# Altium schematic symbol library WCAP-FTX2.SchLib: 108 symbols (part 1 of 2)
Pins are listed as number, name and electrical type; pins without a type are passive.

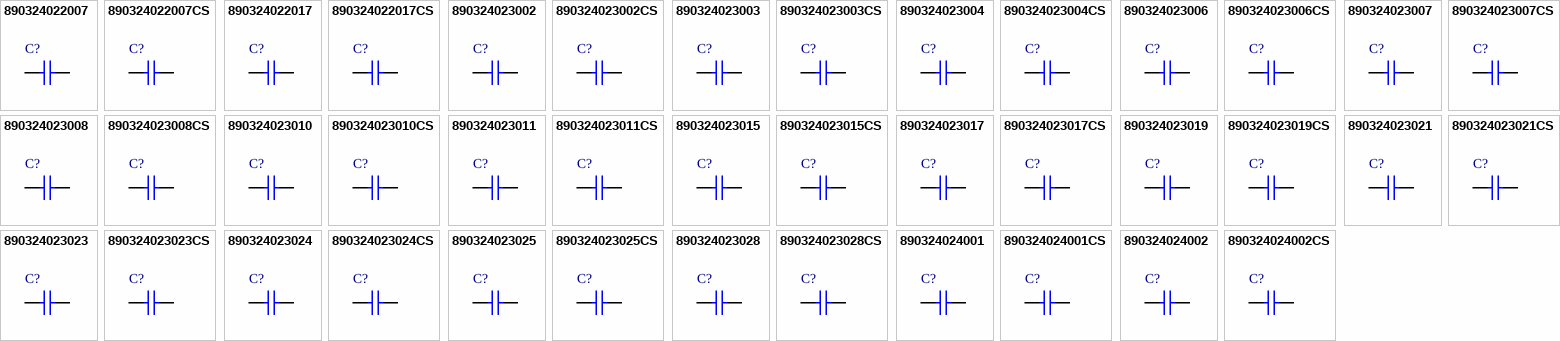
[diagram p0: symbols 890324022007 to 890324024002CS]

## 890324022007
designator C?, comment 15nF  (value not drawn)
WCAP-FTX2 Film Capacitor, THT, 11mm x 6mm x 10mm, 15nF, 275V; Manufacturer Part Number: 890324022007; Manufacturer: Wurth Elektronik; Dissipation Factor @1kHz: 0.1%; Insulation Resistance: 30Gohm; Rate of Voltage Rise: 500V/us; Rated Voltage: 275V (AC); Safety Class: X2; Category: Film Capacitors; Match Code: WCAP-FTX2; ComponentLink1Description: Website Link; ComponentLink1URL: https://www.we-online.com; ComponentLink2Description: Datasheet Link; ComponentLink2URL: https://www.we-online.com/components/products/datasheet/890324022007; Mount: Through Hole; Operating Temperature Min: -40degC; Operating Temperature Max: 105degC; Packaging: Carton; Length: 11mm; Width: 6mm; Height: 10mm; Capacitance: 15nF; Lead Pitch: 7.5mm
footprint WCAP-FTX2_L11W6H10
simulation model 890324022007_15nF
pins: 1, 2

## 890324022007CS
designator C?, comment 15nF  (value not drawn)
WCAP-FTX2 Film Capacitor, THT, 11mm x 6mm x 10mm, 15nF, 275V; Manufacturer Part Number: 890324022007CS; Manufacturer: Wurth Elektronik; Dissipation Factor @1kHz: 0.1%; Insulation Resistance: 30Gohm; Rate of Voltage Rise: 500V/us; Rated Voltage: 275V (AC); Safety Class: X2; Category: Film Capacitors; Match Code: WCAP-FTX2; ComponentLink1Description: Website Link; ComponentLink1URL: https://www.we-online.com; ComponentLink2Description: Datasheet Link; ComponentLink2URL: https://www.we-online.com/components/products/datasheet/890324022007CS; Mount: Through Hole; Operating Temperature Min: -40degC; Operating Temperature Max: 105degC; Packaging: Carton; Length: 11mm; Width: 6mm; Height: 10mm; Capacitance: 15nF; Lead Pitch: 7.5mm
footprint WCAP-FTX2_L11W6H10
simulation model 890324022007CS_15nF
pins: 1, 2

## 890324022017
designator C?, comment 68nF  (value not drawn)
WCAP-FTX2 Film Capacitor, THT, 10mm x 6mm x 12mm, 68nF, 275V; Manufacturer Part Number: 890324022017; Manufacturer: Wurth Elektronik; Dissipation Factor @1kHz: 0.1%; Insulation Resistance: 30Gohm; Rate of Voltage Rise: 400V/us; Rated Voltage: 275V (AC); Safety Class: X2; Category: Film Capacitors; Match Code: WCAP-FTX2; ComponentLink1Description: Website Link; ComponentLink1URL: https://www.we-online.com; ComponentLink2Description: Datasheet Link; ComponentLink2URL: https://www.we-online.com/components/products/datasheet/890324022017; Mount: Through Hole; Operating Temperature Min: -40degC; Operating Temperature Max: 105degC; Packaging: Carton; Length: 10mm; Width: 6mm; Height: 12mm; Capacitance: 68nF; Lead Pitch: 7.5mm
footprint WCAP-FTX2_L10W6H12
simulation model 890324022017_68nF
pins: 1, 2

## 890324022017CS
designator C?, comment 68nF  (value not drawn)
WCAP-FTX2 Film Capacitor, THT, 10mm x 6mm x 12mm, 68nF, 275V; Manufacturer Part Number: 890324022017CS; Manufacturer: Wurth Elektronik; Dissipation Factor @1kHz: 0.1%; Insulation Resistance: 30Gohm; Rate of Voltage Rise: 400V/us; Rated Voltage: 275V (AC); Safety Class: X2; Category: Film Capacitors; Match Code: WCAP-FTX2; ComponentLink1Description: Website Link; ComponentLink1URL: https://www.we-online.com; ComponentLink2Description: Datasheet Link; ComponentLink2URL: https://www.we-online.com/components/products/datasheet/890324022017CS; Mount: Through Hole; Operating Temperature Min: -40degC; Operating Temperature Max: 105degC; Packaging: Carton; Length: 10mm; Width: 6mm; Height: 12mm; Capacitance: 68nF; Lead Pitch: 7.5mm
footprint WCAP-FTX2_L10W6H12
simulation model 890324022017CS_68nF
pins: 1, 2

## 890324023002
designator C?, comment 5.6nF  (value not drawn)
WCAP-FTX2 Film Capacitor, THT, 13mm x 5mm x 10mm, 5.6nF, 275V; Manufacturer Part Number: 890324023002; Manufacturer: Wurth Elektronik; Dissipation Factor @1kHz: 0.1%; Insulation Resistance: 30Gohm; Rate of Voltage Rise: 600V/us; Rated Voltage: 275V (AC); Safety Class: X2; Category: Film Capacitors; Match Code: WCAP-FTX2; ComponentLink1Description: Website Link; ComponentLink1URL: https://www.we-online.com; ComponentLink2Description: Datasheet Link; ComponentLink2URL: https://www.we-online.com/components/products/datasheet/890324023002; Mount: Through Hole; Operating Temperature Min: -40degC; Operating Temperature Max: 105degC; Packaging: Carton; Length: 13mm; Width: 5mm; Height: 10mm; Capacitance: 5.6nF; Lead Pitch: 10mm
footprint WCAP-FTX2_L13W5H10
simulation model 890324023002_5.6nF
pins: 1, 2

## 890324023002CS
designator C?, comment 5.6nF  (value not drawn)
WCAP-FTX2 Film Capacitor, THT, 13mm x 5mm x 10mm, 5.6nF, 275V; Manufacturer Part Number: 890324023002CS; Manufacturer: Wurth Elektronik; Dissipation Factor @1kHz: 0.1%; Insulation Resistance: 30Gohm; Rate of Voltage Rise: 600V/us; Rated Voltage: 275V (AC); Safety Class: X2; Category: Film Capacitors; Match Code: WCAP-FTX2; ComponentLink1Description: Website Link; ComponentLink1URL: https://www.we-online.com; ComponentLink2Description: Datasheet Link; ComponentLink2URL: https://www.we-online.com/components/products/datasheet/890324023002CS; Mount: Through Hole; Operating Temperature Min: -40degC; Operating Temperature Max: 105degC; Packaging: Carton; Length: 13mm; Width: 5mm; Height: 10mm; Capacitance: 5.6nF; Lead Pitch: 10mm
footprint WCAP-FTX2_L13W5H10
simulation model 890324023002CS_5.6nF
pins: 1, 2

## 890324023003
designator C?, comment 6.8nF  (value not drawn)
WCAP-FTX2 Film Capacitor, THT, 13mm x 5mm x 10mm, 6.8nF, 275V; Manufacturer Part Number: 890324023003; Manufacturer: Wurth Elektronik; Dissipation Factor @1kHz: 0.1%; Insulation Resistance: 30Gohm; Rate of Voltage Rise: 400V/us; Rated Voltage: 275V (AC); Safety Class: X2; Category: Film Capacitors; Match Code: WCAP-FTX2; ComponentLink1Description: Website Link; ComponentLink1URL: https://www.we-online.com; ComponentLink2Description: Datasheet Link; ComponentLink2URL: https://www.we-online.com/components/products/datasheet/890324023003; Mount: Through Hole; Operating Temperature Min: -40degC; Operating Temperature Max: 105degC; Packaging: Carton; Length: 13mm; Width: 5mm; Height: 10mm; Capacitance: 6.8nF; Lead Pitch: 10mm
footprint WCAP-FTX2_L13W5H10
simulation model 890324023003_6.8nF
pins: 1, 2

## 890324023003CS
designator C?, comment 6.8nF  (value not drawn)
WCAP-FTX2 Film Capacitor, THT, 13mm x 5mm x 10mm, 6.8nF, 275V; Manufacturer Part Number: 890324023003CS; Manufacturer: Wurth Elektronik; Dissipation Factor @1kHz: 0.1%; Insulation Resistance: 30Gohm; Rate of Voltage Rise: 400V/us; Rated Voltage: 275V (AC); Safety Class: X2; Category: Film Capacitors; Match Code: WCAP-FTX2; ComponentLink1Description: Website Link; ComponentLink1URL: https://www.we-online.com; ComponentLink2Description: Datasheet Link; ComponentLink2URL: https://www.we-online.com/components/products/datasheet/890324023003CS; Mount: Through Hole; Operating Temperature Min: -40degC; Operating Temperature Max: 105degC; Packaging: Carton; Length: 13mm; Width: 5mm; Height: 10mm; Capacitance: 6.8nF; Lead Pitch: 10mm
footprint WCAP-FTX2_L13W5H10
simulation model 890324023003CS_6.8nF
pins: 1, 2

## 890324023004
designator C?, comment 8.2nF  (value not drawn)
WCAP-FTX2 Film Capacitor, THT, 13mm x 5mm x 10mm, 8.2nF, 275V; Manufacturer Part Number: 890324023004; Manufacturer: Wurth Elektronik; Dissipation Factor @1kHz: 0.1%; Insulation Resistance: 30Gohm; Rate of Voltage Rise: 400V/us; Rated Voltage: 275V (AC); Safety Class: X2; Category: Film Capacitors; Match Code: WCAP-FTX2; ComponentLink1Description: Website Link; ComponentLink1URL: https://www.we-online.com; ComponentLink2Description: Datasheet Link; ComponentLink2URL: https://www.we-online.com/components/products/datasheet/890324023004; Mount: Through Hole; Operating Temperature Min: -40degC; Operating Temperature Max: 105degC; Packaging: Carton; Length: 13mm; Width: 5mm; Height: 10mm; Capacitance: 8.2nF; Lead Pitch: 10mm
footprint WCAP-FTX2_L13W5H10
simulation model 890324023004_8.2nF
pins: 1, 2

## 890324023004CS
designator C?, comment 8.2nF  (value not drawn)
WCAP-FTX2 Film Capacitor, THT, 13mm x 5mm x 10mm, 8.2nF, 275V; Manufacturer Part Number: 890324023004CS; Manufacturer: Wurth Elektronik; Dissipation Factor @1kHz: 0.1%; Insulation Resistance: 30Gohm; Rate of Voltage Rise: 400V/us; Rated Voltage: 275V (AC); Safety Class: X2; Category: Film Capacitors; Match Code: WCAP-FTX2; ComponentLink1Description: Website Link; ComponentLink1URL: https://www.we-online.com; ComponentLink2Description: Datasheet Link; ComponentLink2URL: https://www.we-online.com/components/products/datasheet/890324023004CS; Mount: Through Hole; Operating Temperature Min: -40degC; Operating Temperature Max: 105degC; Packaging: Carton; Length: 13mm; Width: 5mm; Height: 10mm; Capacitance: 8.2nF; Lead Pitch: 10mm
footprint WCAP-FTX2_L13W5H10
simulation model 890324023004CS_8.2nF
pins: 1, 2

## 890324023006
designator C?, comment 10nF  (value not drawn)
WCAP-FTX2 Film Capacitor, THT, 13mm x 5mm x 11mm, 10nF, 275V; Manufacturer Part Number: 890324023006; Manufacturer: Wurth Elektronik; Dissipation Factor @1kHz: 0.1%; Insulation Resistance: 30Gohm; Rate of Voltage Rise: 500V/us; Rated Voltage: 275V (AC); Safety Class: X2; Category: Film Capacitors; Match Code: WCAP-FTX2; ComponentLink1Description: Website Link; ComponentLink1URL: https://www.we-online.com; ComponentLink2Description: Datasheet Link; ComponentLink2URL: https://www.we-online.com/components/products/datasheet/890324023006; Mount: Through Hole; Operating Temperature Min: -40degC; Operating Temperature Max: 105degC; Packaging: Carton; Length: 13mm; Width: 5mm; Height: 11mm; Capacitance: 10nF; Lead Pitch: 10mm
footprint WCAP-FTX2_L13W5H11
simulation model 890324023006_10nF
pins: 1, 2

## 890324023006CS
designator C?, comment 10nF  (value not drawn)
WCAP-FTX2 Film Capacitor, THT, 13mm x 5mm x 11mm, 10nF, 275V; Manufacturer Part Number: 890324023006CS; Manufacturer: Wurth Elektronik; Dissipation Factor @1kHz: 0.1%; Insulation Resistance: 30Gohm; Rate of Voltage Rise: 500V/us; Rated Voltage: 275V (AC); Safety Class: X2; Category: Film Capacitors; Match Code: WCAP-FTX2; ComponentLink1Description: Website Link; ComponentLink1URL: https://www.we-online.com; ComponentLink2Description: Datasheet Link; ComponentLink2URL: https://www.we-online.com/components/products/datasheet/890324023006CS; Mount: Through Hole; Operating Temperature Min: -40degC; Operating Temperature Max: 105degC; Packaging: Carton; Length: 13mm; Width: 5mm; Height: 11mm; Capacitance: 10nF; Lead Pitch: 10mm
footprint WCAP-FTX2_L13W5H11
simulation model 890324023006CS_10nF
pins: 1, 2

## 890324023007
designator C?, comment 12nF  (value not drawn)
WCAP-FTX2 Film Capacitor, THT, 13mm x 5mm x 11mm, 12nF, 275V; Manufacturer Part Number: 890324023007; Manufacturer: Wurth Elektronik; Dissipation Factor @1kHz: 0.1%; Insulation Resistance: 30Gohm; Rate of Voltage Rise: 300V/us; Rated Voltage: 275V (AC); Safety Class: X2; Category: Film Capacitors; Match Code: WCAP-FTX2; ComponentLink1Description: Website Link; ComponentLink1URL: https://www.we-online.com; ComponentLink2Description: Datasheet Link; ComponentLink2URL: https://www.we-online.com/components/products/datasheet/890324023007; Mount: Through Hole; Operating Temperature Min: -40degC; Operating Temperature Max: 105degC; Packaging: Carton; Length: 13mm; Width: 5mm; Height: 11mm; Capacitance: 12nF; Lead Pitch: 10mm
footprint WCAP-FTX2_L13W5H11
simulation model 890324023007_12nF
pins: 1, 2

## 890324023007CS
designator C?, comment 12nF  (value not drawn)
WCAP-FTX2 Film Capacitor, THT, 13mm x 5mm x 11mm, 12nF, 275V; Manufacturer Part Number: 890324023007CS; Manufacturer: Wurth Elektronik; Dissipation Factor @1kHz: 0.1%; Insulation Resistance: 30Gohm; Rate of Voltage Rise: 300V/us; Rated Voltage: 275V (AC); Safety Class: X2; Category: Film Capacitors; Match Code: WCAP-FTX2; ComponentLink1Description: Website Link; ComponentLink1URL: https://www.we-online.com; ComponentLink2Description: Datasheet Link; ComponentLink2URL: https://www.we-online.com/components/products/datasheet/890324023007CS; Mount: Through Hole; Operating Temperature Min: -40degC; Operating Temperature Max: 105degC; Packaging: Carton; Length: 13mm; Width: 5mm; Height: 11mm; Capacitance: 12nF; Lead Pitch: 10mm
footprint WCAP-FTX2_L13W5H11
simulation model 890324023007CS_12nF
pins: 1, 2

## 890324023008
designator C?, comment 15nF  (value not drawn)
WCAP-FTX2 Film Capacitor, THT, 13mm x 4.5mm x 9.5mm, 15nF, 275V; Manufacturer Part Number: 890324023008; Manufacturer: Wurth Elektronik; Dissipation Factor @1kHz: 0.1%; Insulation Resistance: 30Gohm; Rate of Voltage Rise: 400V/us; Rated Voltage: 275V (AC); Safety Class: X2; Category: Film Capacitors; Match Code: WCAP-FTX2; ComponentLink1Description: Website Link; ComponentLink1URL: https://www.we-online.com; ComponentLink2Description: Datasheet Link; ComponentLink2URL: https://www.we-online.com/components/products/datasheet/890324023008; Mount: Through Hole; Operating Temperature Min: -40degC; Operating Temperature Max: 105degC; Packaging: Carton; Length: 13mm; Width: 4.5mm; Height: 9.5mm; Capacitance: 15nF; Lead Pitch: 10mm
footprint WCAP-FTX2_L13W4.5H9.5
simulation model 890324023008_15nF
pins: 1, 2

## 890324023008CS
designator C?, comment 15nF  (value not drawn)
WCAP-FTX2 Film Capacitor, THT, 13mm x 4.5mm x 9.5mm, 15nF, 275V; Manufacturer Part Number: 890324023008CS; Manufacturer: Wurth Elektronik; Dissipation Factor @1kHz: 0.1%; Insulation Resistance: 30Gohm; Rate of Voltage Rise: 400V/us; Rated Voltage: 275V (AC); Safety Class: X2; Category: Film Capacitors; Match Code: WCAP-FTX2; ComponentLink1Description: Website Link; ComponentLink1URL: https://www.we-online.com; ComponentLink2Description: Datasheet Link; ComponentLink2URL: https://www.we-online.com/components/products/datasheet/890324023008CS; Mount: Through Hole; Operating Temperature Min: -40degC; Operating Temperature Max: 105degC; Packaging: Carton; Length: 13mm; Width: 4.5mm; Height: 9.5mm; Capacitance: 15nF; Lead Pitch: 10mm
footprint WCAP-FTX2_L13W4.5H9.5
simulation model 890324023008CS_15nF
pins: 1, 2

## 890324023010
designator C?, comment 18nF  (value not drawn)
WCAP-FTX2 Film Capacitor, THT, 13mm x 5mm x 11mm, 18nF, 275V; Manufacturer Part Number: 890324023010; Manufacturer: Wurth Elektronik; Dissipation Factor @1kHz: 0.1%; Insulation Resistance: 30Gohm; Rate of Voltage Rise: 400V/us; Rated Voltage: 275V (AC); Safety Class: X2; Category: Film Capacitors; Match Code: WCAP-FTX2; ComponentLink1Description: Website Link; ComponentLink1URL: https://www.we-online.com; ComponentLink2Description: Datasheet Link; ComponentLink2URL: https://www.we-online.com/components/products/datasheet/890324023010; Mount: Through Hole; Operating Temperature Min: -40degC; Operating Temperature Max: 105degC; Packaging: Carton; Length: 13mm; Width: 5mm; Height: 11mm; Capacitance: 18nF; Lead Pitch: 10mm
footprint WCAP-FTX2_L13W5H11
simulation model 890324023010_18nF
pins: 1, 2

## 890324023010CS
designator C?, comment 18nF  (value not drawn)
WCAP-FTX2 Film Capacitor, THT, 13mm x 5mm x 11mm, 18nF, 275V; Manufacturer Part Number: 890324023010CS; Manufacturer: Wurth Elektronik; Dissipation Factor @1kHz: 0.1%; Insulation Resistance: 30Gohm; Rate of Voltage Rise: 400V/us; Rated Voltage: 275V (AC); Safety Class: X2; Category: Film Capacitors; Match Code: WCAP-FTX2; ComponentLink1Description: Website Link; ComponentLink1URL: https://www.we-online.com; ComponentLink2Description: Datasheet Link; ComponentLink2URL: https://www.we-online.com/components/products/datasheet/890324023010CS; Mount: Through Hole; Operating Temperature Min: -40degC; Operating Temperature Max: 105degC; Packaging: Carton; Length: 13mm; Width: 5mm; Height: 11mm; Capacitance: 18nF; Lead Pitch: 10mm
footprint WCAP-FTX2_L13W5H11
simulation model 890324023010CS_18nF
pins: 1, 2

## 890324023011
designator C?, comment 22nF  (value not drawn)
WCAP-FTX2 Film Capacitor, THT, 13mm x 4.5mm x 9.5mm, 22nF, 275V; Manufacturer Part Number: 890324023011; Manufacturer: Wurth Elektronik; Dissipation Factor @1kHz: 0.1%; Insulation Resistance: 30Gohm; Rate of Voltage Rise: 400V/us; Rated Voltage: 275V (AC); Safety Class: X2; Category: Film Capacitors; Match Code: WCAP-FTX2; ComponentLink1Description: Website Link; ComponentLink1URL: https://www.we-online.com; ComponentLink2Description: Datasheet Link; ComponentLink2URL: https://www.we-online.com/components/products/datasheet/890324023011; Mount: Through Hole; Operating Temperature Min: -40degC; Operating Temperature Max: 105degC; Packaging: Carton; Length: 13mm; Width: 4.5mm; Height: 9.5mm; Capacitance: 22nF; Lead Pitch: 10mm
footprint WCAP-FTX2_L13W4.5H9.5
simulation model 890324023011_22nF
pins: 1, 2

## 890324023011CS
designator C?, comment 22nF  (value not drawn)
WCAP-FTX2 Film Capacitor, THT, 13mm x 4.5mm x 9.5mm, 22nF, 275V; Manufacturer Part Number: 890324023011CS; Manufacturer: Wurth Elektronik; Dissipation Factor @1kHz: 0.1%; Insulation Resistance: 30Gohm; Rate of Voltage Rise: 400V/us; Rated Voltage: 275V (AC); Safety Class: X2; Category: Film Capacitors; Match Code: WCAP-FTX2; ComponentLink1Description: Website Link; ComponentLink1URL: https://www.we-online.com; ComponentLink2Description: Datasheet Link; ComponentLink2URL: https://www.we-online.com/components/products/datasheet/890324023011CS; Mount: Through Hole; Operating Temperature Min: -40degC; Operating Temperature Max: 105degC; Packaging: Carton; Length: 13mm; Width: 4.5mm; Height: 9.5mm; Capacitance: 22nF; Lead Pitch: 10mm
footprint WCAP-FTX2_L13W4.5H9.5
simulation model 890324023011CS_22nF
pins: 1, 2

## 890324023015
designator C?, comment 47nF  (value not drawn)
WCAP-FTX2 Film Capacitor, THT, 13mm x 4.5mm x 9.5mm, 47nF, 275V; Manufacturer Part Number: 890324023015; Manufacturer: Wurth Elektronik; Dissipation Factor @1kHz: 0.1%; Insulation Resistance: 30Gohm; Rate of Voltage Rise: 300V/us; Rated Voltage: 275V (AC); Safety Class: X2; Category: Film Capacitors; Match Code: WCAP-FTX2; ComponentLink1Description: Website Link; ComponentLink1URL: https://www.we-online.com; ComponentLink2Description: Datasheet Link; ComponentLink2URL: https://www.we-online.com/components/products/datasheet/890324023015; Mount: Through Hole; Operating Temperature Min: -40degC; Operating Temperature Max: 105degC; Packaging: Carton; Length: 13mm; Width: 4.5mm; Height: 9.5mm; Capacitance: 47nF; Lead Pitch: 10mm
footprint WCAP-FTX2_L13W4.5H9.5
simulation model 890324023015_47nF
pins: 1, 2

## 890324023015CS
designator C?, comment 47nF  (value not drawn)
WCAP-FTX2 Film Capacitor, THT, 13mm x 4.5mm x 9.5mm, 47nF, 275V; Manufacturer Part Number: 890324023015CS; Manufacturer: Wurth Elektronik; Dissipation Factor @1kHz: 0.1%; Insulation Resistance: 30Gohm; Rate of Voltage Rise: 300V/us; Rated Voltage: 275V (AC); Safety Class: X2; Category: Film Capacitors; Match Code: WCAP-FTX2; ComponentLink1Description: Website Link; ComponentLink1URL: https://www.we-online.com; ComponentLink2Description: Datasheet Link; ComponentLink2URL: https://www.we-online.com/components/products/datasheet/890324023015CS; Mount: Through Hole; Operating Temperature Min: -40degC; Operating Temperature Max: 105degC; Packaging: Carton; Length: 13mm; Width: 4.5mm; Height: 9.5mm; Capacitance: 47nF; Lead Pitch: 10mm
footprint WCAP-FTX2_L13W4.5H9.5
simulation model 890324023015CS_47nF
pins: 1, 2

## 890324023017
designator C?, comment 56nF  (value not drawn)
WCAP-FTX2 Film Capacitor, THT, 13mm x 5mm x 10mm, 56nF, 275V; Manufacturer Part Number: 890324023017; Manufacturer: Wurth Elektronik; Dissipation Factor @1kHz: 0.1%; Insulation Resistance: 30Gohm; Rate of Voltage Rise: 300V/us; Rated Voltage: 275V (AC); Safety Class: X2; Category: Film Capacitors; Match Code: WCAP-FTX2; ComponentLink1Description: Website Link; ComponentLink1URL: https://www.we-online.com; ComponentLink2Description: Datasheet Link; ComponentLink2URL: https://www.we-online.com/components/products/datasheet/890324023017; Mount: Through Hole; Operating Temperature Min: -40degC; Operating Temperature Max: 105degC; Packaging: Carton; Length: 13mm; Width: 5mm; Height: 10mm; Capacitance: 56nF; Lead Pitch: 10mm
footprint WCAP-FTX2_L13W5H10
simulation model 890324023017_56nF
pins: 1, 2

## 890324023017CS
designator C?, comment 56nF  (value not drawn)
WCAP-FTX2 Film Capacitor, THT, 13mm x 5mm x 10mm, 56nF, 275V; Manufacturer Part Number: 890324023017CS; Manufacturer: Wurth Elektronik; Dissipation Factor @1kHz: 0.1%; Insulation Resistance: 30Gohm; Rate of Voltage Rise: 300V/us; Rated Voltage: 275V (AC); Safety Class: X2; Category: Film Capacitors; Match Code: WCAP-FTX2; ComponentLink1Description: Website Link; ComponentLink1URL: https://www.we-online.com; ComponentLink2Description: Datasheet Link; ComponentLink2URL: https://www.we-online.com/components/products/datasheet/890324023017CS; Mount: Through Hole; Operating Temperature Min: -40degC; Operating Temperature Max: 105degC; Packaging: Carton; Length: 13mm; Width: 5mm; Height: 10mm; Capacitance: 56nF; Lead Pitch: 10mm
footprint WCAP-FTX2_L13W5H10
simulation model 890324023017CS_56nF
pins: 1, 2

## 890324023019
designator C?, comment 68nF  (value not drawn)
WCAP-FTX2 Film Capacitor, THT, 13mm x 7mm x 13mm, 68nF, 275V; Manufacturer Part Number: 890324023019; Manufacturer: Wurth Elektronik; Dissipation Factor @1kHz: 0.1%; Insulation Resistance: 30Gohm; Rate of Voltage Rise: 400V/us; Rated Voltage: 275V (AC); Safety Class: X2; Category: Film Capacitors; Match Code: WCAP-FTX2; ComponentLink1Description: Website Link; ComponentLink1URL: https://www.we-online.com; ComponentLink2Description: Datasheet Link; ComponentLink2URL: https://www.we-online.com/components/products/datasheet/890324023019; Mount: Through Hole; Operating Temperature Min: -40degC; Operating Temperature Max: 105degC; Packaging: Carton; Length: 13mm; Width: 7mm; Height: 13mm; Capacitance: 68nF; Lead Pitch: 10mm
footprint WCAP-FTX2_L13W7H13
simulation model 890324023019_68nF
pins: 1, 2

## 890324023019CS
designator C?, comment 68nF  (value not drawn)
WCAP-FTX2 Film Capacitor, THT, 13mm x 7mm x 13mm, 68nF, 275V; Manufacturer Part Number: 890324023019CS; Manufacturer: Wurth Elektronik; Dissipation Factor @1kHz: 0.1%; Insulation Resistance: 30Gohm; Rate of Voltage Rise: 400V/us; Rated Voltage: 275V (AC); Safety Class: X2; Category: Film Capacitors; Match Code: WCAP-FTX2; ComponentLink1Description: Website Link; ComponentLink1URL: https://www.we-online.com; ComponentLink2Description: Datasheet Link; ComponentLink2URL: https://www.we-online.com/components/products/datasheet/890324023019CS; Mount: Through Hole; Operating Temperature Min: -40degC; Operating Temperature Max: 105degC; Packaging: Carton; Length: 13mm; Width: 7mm; Height: 13mm; Capacitance: 68nF; Lead Pitch: 10mm
footprint WCAP-FTX2_L13W7H13
simulation model 890324023019CS_68nF
pins: 1, 2

## 890324023021
designator C?, comment 82nF  (value not drawn)
WCAP-FTX2 Film Capacitor, THT, 13mm x 7mm x 13mm, 82nF, 275V; Manufacturer Part Number: 890324023021; Manufacturer: Wurth Elektronik; Dissipation Factor @1kHz: 0.1%; Insulation Resistance: 30Gohm; Rate of Voltage Rise: 400V/us; Rated Voltage: 275V (AC); Safety Class: X2; Category: Film Capacitors; Match Code: WCAP-FTX2; ComponentLink1Description: Website Link; ComponentLink1URL: https://www.we-online.com; ComponentLink2Description: Datasheet Link; ComponentLink2URL: https://www.we-online.com/components/products/datasheet/890324023021; Mount: Through Hole; Operating Temperature Min: -40degC; Operating Temperature Max: 105degC; Packaging: Carton; Length: 13mm; Width: 7mm; Height: 13mm; Capacitance: 82nF; Lead Pitch: 10mm
footprint WCAP-FTX2_L13W7H13
simulation model 890324023021_82nF
pins: 1, 2

## 890324023021CS
designator C?, comment 82nF  (value not drawn)
WCAP-FTX2 Film Capacitor, THT, 13mm x 7mm x 13mm, 82nF, 275V; Manufacturer Part Number: 890324023021CS; Manufacturer: Wurth Elektronik; Dissipation Factor @1kHz: 0.1%; Insulation Resistance: 30Gohm; Rate of Voltage Rise: 400V/us; Rated Voltage: 275V (AC); Safety Class: X2; Category: Film Capacitors; Match Code: WCAP-FTX2; ComponentLink1Description: Website Link; ComponentLink1URL: https://www.we-online.com; ComponentLink2Description: Datasheet Link; ComponentLink2URL: https://www.we-online.com/components/products/datasheet/890324023021CS; Mount: Through Hole; Operating Temperature Min: -40degC; Operating Temperature Max: 105degC; Packaging: Carton; Length: 13mm; Width: 7mm; Height: 13mm; Capacitance: 82nF; Lead Pitch: 10mm
footprint WCAP-FTX2_L13W7H13
simulation model 890324023021CS_82nF
pins: 1, 2

## 890324023023
designator C?, comment 100nF  (value not drawn)
WCAP-FTX2 Film Capacitor, THT, 13mm x 7mm x 13mm, 100nF, 275V; Manufacturer Part Number: 890324023023; Manufacturer: Wurth Elektronik; Dissipation Factor @1kHz: 0.1%; Insulation Resistance: 30Gohm; Rate of Voltage Rise: 300V/us; Rated Voltage: 275V (AC); Safety Class: X2; Category: Film Capacitors; Match Code: WCAP-FTX2; ComponentLink1Description: Website Link; ComponentLink1URL: https://www.we-online.com; ComponentLink2Description: Datasheet Link; ComponentLink2URL: https://www.we-online.com/components/products/datasheet/890324023023; Mount: Through Hole; Operating Temperature Min: -40degC; Operating Temperature Max: 105degC; Packaging: Carton; Length: 13mm; Width: 7mm; Height: 13mm; Capacitance: 100nF; Lead Pitch: 10mm
footprint WCAP-FTX2_L13W7H13
simulation model 890324023023_100nF
pins: 1, 2

## 890324023023CS
designator C?, comment 100nF  (value not drawn)
WCAP-FTX2 Film Capacitor, THT, 13mm x 7mm x 13mm, 100nF, 275V; Manufacturer Part Number: 890324023023CS; Manufacturer: Wurth Elektronik; Dissipation Factor @1kHz: 0.1%; Insulation Resistance: 30Gohm; Rate of Voltage Rise: 300V/us; Rated Voltage: 275V (AC); Safety Class: X2; Category: Film Capacitors; Match Code: WCAP-FTX2; ComponentLink1Description: Website Link; ComponentLink1URL: https://www.we-online.com; ComponentLink2Description: Datasheet Link; ComponentLink2URL: https://www.we-online.com/components/products/datasheet/890324023023CS; Mount: Through Hole; Operating Temperature Min: -40degC; Operating Temperature Max: 105degC; Packaging: Carton; Length: 13mm; Width: 7mm; Height: 13mm; Capacitance: 100nF; Lead Pitch: 10mm
footprint WCAP-FTX2_L13W7H13
simulation model 890324023023CS_100nF
pins: 1, 2

## 890324023024
designator C?, comment 120nF  (value not drawn)
WCAP-FTX2 Film Capacitor, THT, 13mm x 7mm x 13mm, 120nF, 275V; Manufacturer Part Number: 890324023024; Manufacturer: Wurth Elektronik; Dissipation Factor @1kHz: 0.1%; Insulation Resistance: 30Gohm; Rate of Voltage Rise: 400V/us; Rated Voltage: 275V (AC); Safety Class: X2; Category: Film Capacitors; Match Code: WCAP-FTX2; ComponentLink1Description: Website Link; ComponentLink1URL: https://www.we-online.com; ComponentLink2Description: Datasheet Link; ComponentLink2URL: https://www.we-online.com/components/products/datasheet/890324023024; Mount: Through Hole; Operating Temperature Min: -40degC; Operating Temperature Max: 105degC; Packaging: Carton; Length: 13mm; Width: 7mm; Height: 13mm; Capacitance: 120nF; Lead Pitch: 10mm
footprint WCAP-FTX2_L13W7H13
simulation model 890324023024_120nF
pins: 1, 2

## 890324023024CS
designator C?, comment 120nF  (value not drawn)
WCAP-FTX2 Film Capacitor, THT, 13mm x 7mm x 13mm, 120nF, 275V; Manufacturer Part Number: 890324023024CS; Manufacturer: Wurth Elektronik; Dissipation Factor @1kHz: 0.1%; Insulation Resistance: 30Gohm; Rate of Voltage Rise: 400V/us; Rated Voltage: 275V (AC); Safety Class: X2; Category: Film Capacitors; Match Code: WCAP-FTX2; ComponentLink1Description: Website Link; ComponentLink1URL: https://www.we-online.com; ComponentLink2Description: Datasheet Link; ComponentLink2URL: https://www.we-online.com/components/products/datasheet/890324023024CS; Mount: Through Hole; Operating Temperature Min: -40degC; Operating Temperature Max: 105degC; Packaging: Carton; Length: 13mm; Width: 7mm; Height: 13mm; Capacitance: 120nF; Lead Pitch: 10mm
footprint WCAP-FTX2_L13W7H13
simulation model 890324023024CS_120nF
pins: 1, 2

## 890324023025
designator C?, comment 150nF  (value not drawn)
WCAP-FTX2 Film Capacitor, THT, 13mm x 7mm x 12mm, 150nF, 275V; Manufacturer Part Number: 890324023025; Manufacturer: Wurth Elektronik; Dissipation Factor @1kHz: 0.1%; Insulation Resistance: 30Gohm; Rate of Voltage Rise: 300V/us; Rated Voltage: 275V (AC); Safety Class: X2; Category: Film Capacitors; Match Code: WCAP-FTX2; ComponentLink1Description: Website Link; ComponentLink1URL: https://www.we-online.com; ComponentLink2Description: Datasheet Link; ComponentLink2URL: https://www.we-online.com/components/products/datasheet/890324023025; Mount: Through Hole; Operating Temperature Min: -40degC; Operating Temperature Max: 105degC; Packaging: Carton; Length: 13mm; Width: 7mm; Height: 12mm; Capacitance: 150nF; Lead Pitch: 10mm
footprint WCAP-FTX2_L13W7H12
simulation model 890324023025_150nF
pins: 1, 2

## 890324023025CS
designator C?, comment 150nF  (value not drawn)
WCAP-FTX2 Film Capacitor, THT, 13mm x 7mm x 12mm, 150nF, 275V; Manufacturer Part Number: 890324023025CS; Manufacturer: Wurth Elektronik; Dissipation Factor @1kHz: 0.1%; Insulation Resistance: 30Gohm; Rate of Voltage Rise: 300V/us; Rated Voltage: 275V (AC); Safety Class: X2; Category: Film Capacitors; Match Code: WCAP-FTX2; ComponentLink1Description: Website Link; ComponentLink1URL: https://www.we-online.com; ComponentLink2Description: Datasheet Link; ComponentLink2URL: https://www.we-online.com/components/products/datasheet/890324023025CS; Mount: Through Hole; Operating Temperature Min: -40degC; Operating Temperature Max: 105degC; Packaging: Carton; Length: 13mm; Width: 7mm; Height: 12mm; Capacitance: 150nF; Lead Pitch: 10mm
footprint WCAP-FTX2_L13W7H12
simulation model 890324023025CS_150nF
pins: 1, 2

## 890324023028
designator C?, comment 220nF  (value not drawn)
WCAP-FTX2 Film Capacitor, THT, 13mm x 8mm x 14mm, 220nF, 275V; Manufacturer Part Number: 890324023028; Manufacturer: Wurth Elektronik; Dissipation Factor @1kHz: 0.1%; Insulation Resistance: 30Gohm; Rate of Voltage Rise: 300V/us; Rated Voltage: 275V (AC); Safety Class: X2; Category: Film Capacitors; Match Code: WCAP-FTX2; ComponentLink1Description: Website Link; ComponentLink1URL: https://www.we-online.com; ComponentLink2Description: Datasheet Link; ComponentLink2URL: https://www.we-online.com/components/products/datasheet/890324023028; Mount: Through Hole; Operating Temperature Min: -40degC; Operating Temperature Max: 105degC; Packaging: Carton; Length: 13mm; Width: 8mm; Height: 14mm; Capacitance: 220nF; Lead Pitch: 10mm
footprint WCAP-FTX2_L13W8H14
simulation model 890324023028_220nF
pins: 1, 2

## 890324023028CS
designator C?, comment 220nF  (value not drawn)
WCAP-FTX2 Film Capacitor, THT, 13mm x 8mm x 14mm, 220nF, 275V; Manufacturer Part Number: 890324023028CS; Manufacturer: Wurth Elektronik; Dissipation Factor @1kHz: 0.1%; Insulation Resistance: 30Gohm; Rate of Voltage Rise: 300V/us; Rated Voltage: 275V (AC); Safety Class: X2; Category: Film Capacitors; Match Code: WCAP-FTX2; ComponentLink1Description: Website Link; ComponentLink1URL: https://www.we-online.com; ComponentLink2Description: Datasheet Link; ComponentLink2URL: https://www.we-online.com/components/products/datasheet/890324023028CS; Mount: Through Hole; Operating Temperature Min: -40degC; Operating Temperature Max: 105degC; Packaging: Carton; Length: 13mm; Width: 8mm; Height: 14mm; Capacitance: 220nF; Lead Pitch: 10mm
footprint WCAP-FTX2_L13W8H14
simulation model 890324023028CS_220nF
pins: 1, 2

## 890324024001
designator C?, comment 150nF  (value not drawn)
WCAP-FTX2 Film Capacitor, THT, 15mm x 6mm x 11.5mm, 150nF, 275V; Manufacturer Part Number: 890324024001; Manufacturer: Wurth Elektronik; Dissipation Factor @1kHz: 0.1%; Insulation Resistance: 30Gohm; Rate of Voltage Rise: 210V/us; Rated Voltage: 275V (AC); Safety Class: X2; Category: Film Capacitors; Match Code: WCAP-FTX2; ComponentLink1Description: Website Link; ComponentLink1URL: https://www.we-online.com; ComponentLink2Description: Datasheet Link; ComponentLink2URL: https://www.we-online.com/components/products/datasheet/890324024001; Mount: Through Hole; Operating Temperature Min: -40degC; Operating Temperature Max: 105degC; Packaging: Carton; Length: 15mm; Width: 6mm; Height: 11.5mm; Capacitance: 150nF; Lead Pitch: 12.5mm
footprint WCAP-FTX2_L15W6H11.5
simulation model 890324024001_150nF
pins: 1, 2

## 890324024001CS
designator C?, comment 150nF  (value not drawn)
WCAP-FTX2 Film Capacitor, THT, 15mm x 6mm x 11.5mm, 150nF, 275V; Manufacturer Part Number: 890324024001CS; Manufacturer: Wurth Elektronik; Dissipation Factor @1kHz: 0.1%; Insulation Resistance: 30Gohm; Rate of Voltage Rise: 210V/us; Rated Voltage: 275V (AC); Safety Class: X2; Category: Film Capacitors; Match Code: WCAP-FTX2; ComponentLink1Description: Website Link; ComponentLink1URL: https://www.we-online.com; ComponentLink2Description: Datasheet Link; ComponentLink2URL: https://www.we-online.com/components/products/datasheet/890324024001CS; Mount: Through Hole; Operating Temperature Min: -40degC; Operating Temperature Max: 105degC; Packaging: Carton; Length: 15mm; Width: 6mm; Height: 11.5mm; Capacitance: 150nF; Lead Pitch: 12.5mm
footprint WCAP-FTX2_L15W6H11.5
simulation model 890324024001CS_150nF
pins: 1, 2

## 890324024002
designator C?, comment 220nF  (value not drawn)
WCAP-FTX2 Film Capacitor, THT, 15mm x 7mm x 12.5mm, 220nF, 275V; Manufacturer Part Number: 890324024002; Manufacturer: Wurth Elektronik; Dissipation Factor @1kHz: 0.1%; Insulation Resistance: 30Gohm; Rate of Voltage Rise: 240V/us; Rated Voltage: 275V (AC); Safety Class: X2; Category: Film Capacitors; Match Code: WCAP-FTX2; ComponentLink1Description: Website Link; ComponentLink1URL: https://www.we-online.com; ComponentLink2Description: Datasheet Link; ComponentLink2URL: https://www.we-online.com/components/products/datasheet/890324024002; Mount: Through Hole; Operating Temperature Min: -40degC; Operating Temperature Max: 105degC; Packaging: Carton; Length: 15mm; Width: 7mm; Height: 12.5mm; Capacitance: 220nF; Lead Pitch: 12.5mm
footprint WCAP-FTX2_L15W7H12.5
simulation model 890324024002_220nF
pins: 1, 2

## 890324024002CS
designator C?, comment 220nF  (value not drawn)
WCAP-FTX2 Film Capacitor, THT, 15mm x 7mm x 12.5mm, 220nF, 275V; Manufacturer Part Number: 890324024002CS; Manufacturer: Wurth Elektronik; Dissipation Factor @1kHz: 0.1%; Insulation Resistance: 30Gohm; Rate of Voltage Rise: 240V/us; Rated Voltage: 275V (AC); Safety Class: X2; Category: Film Capacitors; Match Code: WCAP-FTX2; ComponentLink1Description: Website Link; ComponentLink1URL: https://www.we-online.com; ComponentLink2Description: Datasheet Link; ComponentLink2URL: https://www.we-online.com/components/products/datasheet/890324024002CS; Mount: Through Hole; Operating Temperature Min: -40degC; Operating Temperature Max: 105degC; Packaging: Carton; Length: 15mm; Width: 7mm; Height: 12.5mm; Capacitance: 220nF; Lead Pitch: 12.5mm
footprint WCAP-FTX2_L15W7H12.5
simulation model 890324024002CS_220nF
pins: 1, 2

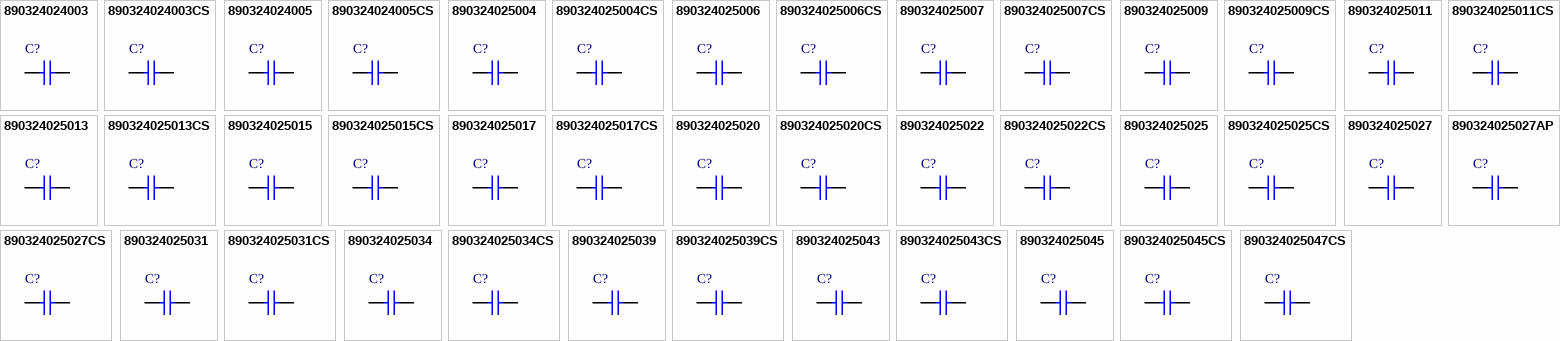
[diagram p1: symbols 890324024003 to 890324025047CS]

## 890324024003
designator C?, comment 330nF  (value not drawn)
WCAP-FTX2 Film Capacitor, THT, 15mm x 8.5mm x 14mm, 330nF, 275V; Manufacturer Part Number: 890324024003; Manufacturer: Wurth Elektronik; Dissipation Factor @1kHz: 0.1%; Insulation Resistance: 30Gohm; Rate of Voltage Rise: 260V/us; Rated Voltage: 275V (AC); Safety Class: X2; Category: Film Capacitors; Match Code: WCAP-FTX2; ComponentLink1Description: Website Link; ComponentLink1URL: https://www.we-online.com; ComponentLink2Description: Datasheet Link; ComponentLink2URL: https://www.we-online.com/components/products/datasheet/890324024003; Mount: Through Hole; Operating Temperature Min: -40degC; Operating Temperature Max: 105degC; Packaging: Carton; Length: 15mm; Width: 8.5mm; Height: 14mm; Capacitance: 330nF; Lead Pitch: 12.5mm
footprint WCAP-FTX2_L15W8.5H14
simulation model 890324024003_330nF
pins: 1, 2

## 890324024003CS
designator C?, comment 330nF  (value not drawn)
WCAP-FTX2 Film Capacitor, THT, 15mm x 8.5mm x 14mm, 330nF, 275V; Manufacturer Part Number: 890324024003CS; Manufacturer: Wurth Elektronik; Dissipation Factor @1kHz: 0.1%; Insulation Resistance: 30Gohm; Rate of Voltage Rise: 260V/us; Rated Voltage: 275V (AC); Safety Class: X2; Category: Film Capacitors; Match Code: WCAP-FTX2; ComponentLink1Description: Website Link; ComponentLink1URL: https://www.we-online.com; ComponentLink2Description: Datasheet Link; ComponentLink2URL: https://www.we-online.com/components/products/datasheet/890324024003CS; Mount: Through Hole; Operating Temperature Min: -40degC; Operating Temperature Max: 105degC; Packaging: Carton; Length: 15mm; Width: 8.5mm; Height: 14mm; Capacitance: 330nF; Lead Pitch: 12.5mm
footprint WCAP-FTX2_L15W8.5H14
simulation model 890324024003CS_330nF
pins: 1, 2

## 890324024005
designator C?, comment 470nF  (value not drawn)
WCAP-FTX2 Film Capacitor, THT, 15mm x 10mm x 16mm, 470nF, 275V; Manufacturer Part Number: 890324024005; Manufacturer: Wurth Elektronik; Dissipation Factor @1kHz: 0.1%; Insulation Resistance: 21.28Gohm; Rate of Voltage Rise: 280V/us; Rated Voltage: 275V (AC); Safety Class: X2; Category: Film Capacitors; Match Code: WCAP-FTX2; ComponentLink1Description: Website Link; ComponentLink1URL: https://www.we-online.com; ComponentLink2Description: Datasheet Link; ComponentLink2URL: https://www.we-online.com/components/products/datasheet/890324024005; Mount: Through Hole; Operating Temperature Min: -40degC; Operating Temperature Max: 105degC; Packaging: Carton; Length: 15mm; Width: 10mm; Height: 16mm; Capacitance: 470nF; Lead Pitch: 12.5mm
footprint WCAP-FTX2_L15W10H16
simulation model 890324024005_470nF
pins: 1, 2

## 890324024005CS
designator C?, comment 470nF  (value not drawn)
WCAP-FTX2 Film Capacitor, THT, 15mm x 10mm x 16mm, 470nF, 275V; Manufacturer Part Number: 890324024005CS; Manufacturer: Wurth Elektronik; Dissipation Factor @1kHz: 0.1%; Insulation Resistance: 21.28Gohm; Rate of Voltage Rise: 280V/us; Rated Voltage: 275V (AC); Safety Class: X2; Category: Film Capacitors; Match Code: WCAP-FTX2; ComponentLink1Description: Website Link; ComponentLink1URL: https://www.we-online.com; ComponentLink2Description: Datasheet Link; ComponentLink2URL: https://www.we-online.com/components/products/datasheet/890324024005CS; Mount: Through Hole; Operating Temperature Min: -40degC; Operating Temperature Max: 105degC; Packaging: Carton; Length: 15mm; Width: 10mm; Height: 16mm; Capacitance: 470nF; Lead Pitch: 12.5mm
footprint WCAP-FTX2_L15W10H16
simulation model 890324024005CS_470nF
pins: 1, 2

## 890324025004
designator C?, comment 27nF  (value not drawn)
WCAP-FTX2 Film Capacitor, THT, 18mm x 5mm x 11mm, 27nF, 275V; Manufacturer Part Number: 890324025004; Manufacturer: Wurth Elektronik; Dissipation Factor @1kHz: 0.1%; Insulation Resistance: 30Gohm; Rate of Voltage Rise: 300V/us; Rated Voltage: 275V (AC); Safety Class: X2; Category: Film Capacitors; Match Code: WCAP-FTX2; ComponentLink1Description: Website Link; ComponentLink1URL: https://www.we-online.com; ComponentLink2Description: Datasheet Link; ComponentLink2URL: https://www.we-online.com/components/products/datasheet/890324025004; Mount: Through Hole; Operating Temperature Min: -40degC; Operating Temperature Max: 105degC; Packaging: Carton; Length: 18mm; Width: 5mm; Height: 11mm; Capacitance: 27nF; Lead Pitch: 15mm
footprint WCAP-FTX2_L18W5H11
simulation model 890324025004_27nF
pins: 1, 2

## 890324025004CS
designator C?, comment 27nF  (value not drawn)
WCAP-FTX2 Film Capacitor, THT, 18mm x 5mm x 11mm, 27nF, 275V; Manufacturer Part Number: 890324025004CS; Manufacturer: Wurth Elektronik; Dissipation Factor @1kHz: 0.1%; Insulation Resistance: 30Gohm; Rate of Voltage Rise: 300V/us; Rated Voltage: 275V (AC); Safety Class: X2; Category: Film Capacitors; Match Code: WCAP-FTX2; ComponentLink1Description: Website Link; ComponentLink1URL: https://www.we-online.com; ComponentLink2Description: Datasheet Link; ComponentLink2URL: https://www.we-online.com/components/products/datasheet/890324025004CS; Mount: Through Hole; Operating Temperature Min: -40degC; Operating Temperature Max: 105degC; Packaging: Carton; Length: 18mm; Width: 5mm; Height: 11mm; Capacitance: 27nF; Lead Pitch: 15mm
footprint WCAP-FTX2_L18W5H11
simulation model 890324025004CS_27nF
pins: 1, 2

## 890324025006
designator C?, comment 33nF  (value not drawn)
WCAP-FTX2 Film Capacitor, THT, 18mm x 5mm x 11mm, 33nF, 275V; Manufacturer Part Number: 890324025006; Manufacturer: Wurth Elektronik; Dissipation Factor @1kHz: 0.1%; Insulation Resistance: 30Gohm; Rate of Voltage Rise: 300V/us; Rated Voltage: 275V (AC); Safety Class: X2; Category: Film Capacitors; Match Code: WCAP-FTX2; ComponentLink1Description: Website Link; ComponentLink1URL: https://www.we-online.com; ComponentLink2Description: Datasheet Link; ComponentLink2URL: https://www.we-online.com/components/products/datasheet/890324025006; Mount: Through Hole; Operating Temperature Min: -40degC; Operating Temperature Max: 105degC; Packaging: Carton; Length: 18mm; Width: 5mm; Height: 11mm; Capacitance: 33nF; Lead Pitch: 15mm
footprint WCAP-FTX2_L18W5H11
simulation model 890324025006_33nF
pins: 1, 2

## 890324025006CS
designator C?, comment 33nF  (value not drawn)
WCAP-FTX2 Film Capacitor, THT, 18mm x 5mm x 11mm, 33nF, 275V; Manufacturer Part Number: 890324025006CS; Manufacturer: Wurth Elektronik; Dissipation Factor @1kHz: 0.1%; Insulation Resistance: 30Gohm; Rate of Voltage Rise: 300V/us; Rated Voltage: 275V (AC); Safety Class: X2; Category: Film Capacitors; Match Code: WCAP-FTX2; ComponentLink1Description: Website Link; ComponentLink1URL: https://www.we-online.com; ComponentLink2Description: Datasheet Link; ComponentLink2URL: https://www.we-online.com/components/products/datasheet/890324025006CS; Mount: Through Hole; Operating Temperature Min: -40degC; Operating Temperature Max: 105degC; Packaging: Carton; Length: 18mm; Width: 5mm; Height: 11mm; Capacitance: 33nF; Lead Pitch: 15mm
footprint WCAP-FTX2_L18W5H11
simulation model 890324025006CS_33nF
pins: 1, 2

## 890324025007
designator C?, comment 39nF  (value not drawn)
WCAP-FTX2 Film Capacitor, THT, 18mm x 5mm x 11mm, 39nF, 275V; Manufacturer Part Number: 890324025007; Manufacturer: Wurth Elektronik; Dissipation Factor @1kHz: 0.1%; Insulation Resistance: 30Gohm; Rate of Voltage Rise: 300V/us; Rated Voltage: 275V (AC); Safety Class: X2; Category: Film Capacitors; Match Code: WCAP-FTX2; ComponentLink1Description: Website Link; ComponentLink1URL: https://www.we-online.com; ComponentLink2Description: Datasheet Link; ComponentLink2URL: https://www.we-online.com/components/products/datasheet/890324025007; Mount: Through Hole; Operating Temperature Min: -40degC; Operating Temperature Max: 105degC; Packaging: Carton; Length: 18mm; Width: 5mm; Height: 11mm; Capacitance: 39nF; Lead Pitch: 15mm
footprint WCAP-FTX2_L18W5H11
simulation model 890324025007_39nF
pins: 1, 2

## 890324025007CS
designator C?, comment 39nF  (value not drawn)
WCAP-FTX2 Film Capacitor, THT, 18mm x 5mm x 11mm, 39nF, 275V; Manufacturer Part Number: 890324025007CS; Manufacturer: Wurth Elektronik; Dissipation Factor @1kHz: 0.1%; Insulation Resistance: 30Gohm; Rate of Voltage Rise: 300V/us; Rated Voltage: 275V (AC); Safety Class: X2; Category: Film Capacitors; Match Code: WCAP-FTX2; ComponentLink1Description: Website Link; ComponentLink1URL: https://www.we-online.com; ComponentLink2Description: Datasheet Link; ComponentLink2URL: https://www.we-online.com/components/products/datasheet/890324025007CS; Mount: Through Hole; Operating Temperature Min: -40degC; Operating Temperature Max: 105degC; Packaging: Carton; Length: 18mm; Width: 5mm; Height: 11mm; Capacitance: 39nF; Lead Pitch: 15mm
footprint WCAP-FTX2_L18W5H11
simulation model 890324025007CS_39nF
pins: 1, 2

## 890324025009
designator C?, comment 47nF  (value not drawn)
WCAP-FTX2 Film Capacitor, THT, 18mm x 5mm x 11mm, 47nF, 275V; Manufacturer Part Number: 890324025009; Manufacturer: Wurth Elektronik; Dissipation Factor @1kHz: 0.1%; Insulation Resistance: 30Gohm; Rate of Voltage Rise: 220V/us; Rated Voltage: 275V (AC); Safety Class: X2; Category: Film Capacitors; Match Code: WCAP-FTX2; ComponentLink1Description: Website Link; ComponentLink1URL: https://www.we-online.com; ComponentLink2Description: Datasheet Link; ComponentLink2URL: https://www.we-online.com/components/products/datasheet/890324025009; Mount: Through Hole; Operating Temperature Min: -40degC; Operating Temperature Max: 105degC; Packaging: Carton; Length: 18mm; Width: 5mm; Height: 11mm; Capacitance: 47nF; Lead Pitch: 15mm
footprint WCAP-FTX2_L18W5H11
simulation model 890324025009_47nF
pins: 1, 2

## 890324025009CS
designator C?, comment 47nF  (value not drawn)
WCAP-FTX2 Film Capacitor, THT, 18mm x 5mm x 11mm, 47nF, 275V; Manufacturer Part Number: 890324025009CS; Manufacturer: Wurth Elektronik; Dissipation Factor @1kHz: 0.1%; Insulation Resistance: 30Gohm; Rate of Voltage Rise: 220V/us; Rated Voltage: 275V (AC); Safety Class: X2; Category: Film Capacitors; Match Code: WCAP-FTX2; ComponentLink1Description: Website Link; ComponentLink1URL: https://www.we-online.com; ComponentLink2Description: Datasheet Link; ComponentLink2URL: https://www.we-online.com/components/products/datasheet/890324025009CS; Mount: Through Hole; Operating Temperature Min: -40degC; Operating Temperature Max: 105degC; Packaging: Carton; Length: 18mm; Width: 5mm; Height: 11mm; Capacitance: 47nF; Lead Pitch: 15mm
footprint WCAP-FTX2_L18W5H11
simulation model 890324025009CS_47nF
pins: 1, 2

## 890324025011
designator C?, comment 56nF  (value not drawn)
WCAP-FTX2 Film Capacitor, THT, 18mm x 5mm x 11mm, 56nF, 275V; Manufacturer Part Number: 890324025011; Manufacturer: Wurth Elektronik; Dissipation Factor @1kHz: 0.1%; Insulation Resistance: 30Gohm; Rate of Voltage Rise: 250V/us; Rated Voltage: 275V (AC); Safety Class: X2; Category: Film Capacitors; Match Code: WCAP-FTX2; ComponentLink1Description: Website Link; ComponentLink1URL: https://www.we-online.com; ComponentLink2Description: Datasheet Link; ComponentLink2URL: https://www.we-online.com/components/products/datasheet/890324025011; Mount: Through Hole; Operating Temperature Min: -40degC; Operating Temperature Max: 105degC; Packaging: Carton; Length: 18mm; Width: 5mm; Height: 11mm; Capacitance: 56nF; Lead Pitch: 15mm
footprint WCAP-FTX2_L18W5H11
simulation model 890324025011_56nF
pins: 1, 2

## 890324025011CS
designator C?, comment 56nF  (value not drawn)
WCAP-FTX2 Film Capacitor, THT, 18mm x 5mm x 11mm, 56nF, 275V; Manufacturer Part Number: 890324025011CS; Manufacturer: Wurth Elektronik; Dissipation Factor @1kHz: 0.1%; Insulation Resistance: 30Gohm; Rate of Voltage Rise: 250V/us; Rated Voltage: 275V (AC); Safety Class: X2; Category: Film Capacitors; Match Code: WCAP-FTX2; ComponentLink1Description: Website Link; ComponentLink1URL: https://www.we-online.com; ComponentLink2Description: Datasheet Link; ComponentLink2URL: https://www.we-online.com/components/products/datasheet/890324025011CS; Mount: Through Hole; Operating Temperature Min: -40degC; Operating Temperature Max: 105degC; Packaging: Carton; Length: 18mm; Width: 5mm; Height: 11mm; Capacitance: 56nF; Lead Pitch: 15mm
footprint WCAP-FTX2_L18W5H11
simulation model 890324025011CS_56nF
pins: 1, 2

## 890324025013
designator C?, comment 68nF  (value not drawn)
WCAP-FTX2 Film Capacitor, THT, 18mm x 6mm x 12mm, 68nF, 275V; Manufacturer Part Number: 890324025013; Manufacturer: Wurth Elektronik; Dissipation Factor @1kHz: 0.1%; Insulation Resistance: 30Gohm; Rate of Voltage Rise: 270V/us; Rated Voltage: 275V (AC); Safety Class: X2; Category: Film Capacitors; Match Code: WCAP-FTX2; ComponentLink1Description: Website Link; ComponentLink1URL: https://www.we-online.com; ComponentLink2Description: Datasheet Link; ComponentLink2URL: https://www.we-online.com/components/products/datasheet/890324025013; Mount: Through Hole; Operating Temperature Min: -40degC; Operating Temperature Max: 105degC; Packaging: Carton; Length: 18mm; Width: 6mm; Height: 12mm; Capacitance: 68nF; Lead Pitch: 15mm
footprint WCAP-FTX2_L18W6H12
simulation model 890324025013_68nF
pins: 1, 2

## 890324025013CS
designator C?, comment 68nF  (value not drawn)
WCAP-FTX2 Film Capacitor, THT, 18mm x 6mm x 12mm, 68nF, 275V; Manufacturer Part Number: 890324025013CS; Manufacturer: Wurth Elektronik; Dissipation Factor @1kHz: 0.1%; Insulation Resistance: 30Gohm; Rate of Voltage Rise: 270V/us; Rated Voltage: 275V (AC); Safety Class: X2; Category: Film Capacitors; Match Code: WCAP-FTX2; ComponentLink1Description: Website Link; ComponentLink1URL: https://www.we-online.com; ComponentLink2Description: Datasheet Link; ComponentLink2URL: https://www.we-online.com/components/products/datasheet/890324025013CS; Mount: Through Hole; Operating Temperature Min: -40degC; Operating Temperature Max: 105degC; Packaging: Carton; Length: 18mm; Width: 6mm; Height: 12mm; Capacitance: 68nF; Lead Pitch: 15mm
footprint WCAP-FTX2_L18W6H12
simulation model 890324025013CS_68nF
pins: 1, 2